# Altium footprint library CLV1A-FKB.PcbLib: 1 footprints
Each footprint in its own frame and in the unit in brackets; x right, y up, seen from the top. Pads: shape width x height; smd on the part's side, far side on the other; paste and mask are expansions set on the pad; w line width, h text height; cw(c..) or ccw(c..) is an arc to the next point about the centre after c.
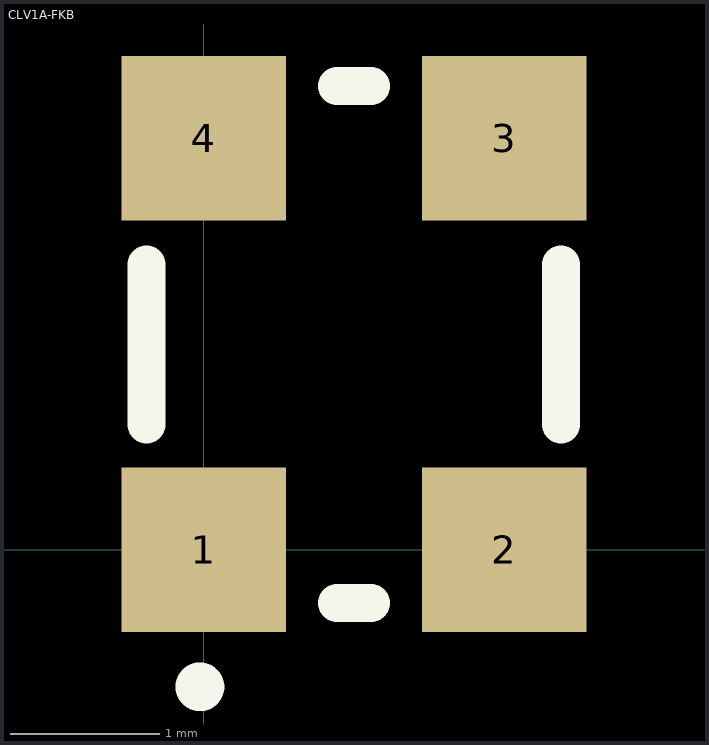
[diagram p0: the footprint, top view; thin cyan lines are the x and y axes]

## CLV1A-FKB [mm] "SMT RGB LED"
pads (4):
  rect 1.1x1.1 smd: 1(0,0) 2(2.008,0) 3(2.008,2.75) 4(0,2.75)
Top Overlay:
  circle w0.254: c-0.025,-0.914 r0.036
  lines w0.254: -0.381,0.838 -0.381,1.905 ; 0.889,-0.356 1.118,-0.356 ; 0.889,3.099 1.118,3.099 ; 2.388,0.838 2.388,1.905